# EAGLE library part SI7013-* (library si70xx-10)
I2C Humidity and Two-Zone Temperature Sensor Source: http://www.silabs.com/Support%20Documents/TechnicalDocs/Si7013.pdf
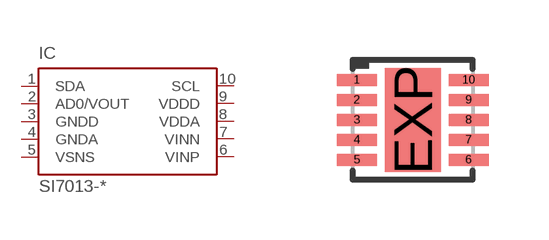
[diagram p8: symbol with the pads of DFN10-3X3; footprint DFN10-3X3]

Designator prefix IC

## SI7013-A10-GM (MF: Silicon Labs; MPN: Si7013-A10-GM; OC_FARNELL: 2422562; OC_NEWARK: 55X3103), SI7013-A10-GM1 (MF: Silicon Labs; MPN: Si7013-A10-GM1; OC_FARNELL: 2422561; OC_NEWARK: 55X3104), SI7013-A10-IM (MF: Silicon Labs; MPN: Si7013-A10-IM; OC_FARNELL: 2422564; OC_NEWARK: 55X3105), SI7013-A10-IM1 (MF: Silicon Labs; MPN: Si7013-A10-IM1; OC_FARNELL: 2422563; OC_NEWARK: 55X3106)  [DFN10-3X3]
1  SDA
2  AD0/VOUT
3  GNDD  pwr
4  GNDA  pwr
5  VSNS  in
6  VINP  in
7  VINN  in
8  VDDA  pwr
9  VDDD  pwr
10  SCL  in

## Footprint DFN10-3X3 (pad centres in mm)
10-Lead Plastic Dual Flat No Lead Package - 3x3 mm Body [DFN] Source: http://www.silabs.com/Support%20Documents/TechnicalDocs/Si7013.pdf
smd 1 x 0.3: 1 -1.4,1; 2 -1.4,0.5; 3 -1.4,0; 4 -1.4,-0.5; 5 -1.4,-1; 6 1.4,-1; 7 1.4,-0.5; 8 1.4,0; 9 1.4,0.5; 10 1.4,1
smd 1.4 x 2.6: EXP 0,0